# Altium schematic symbol library RPSLib.SchLib: 121 symbols (part 3 of 3)
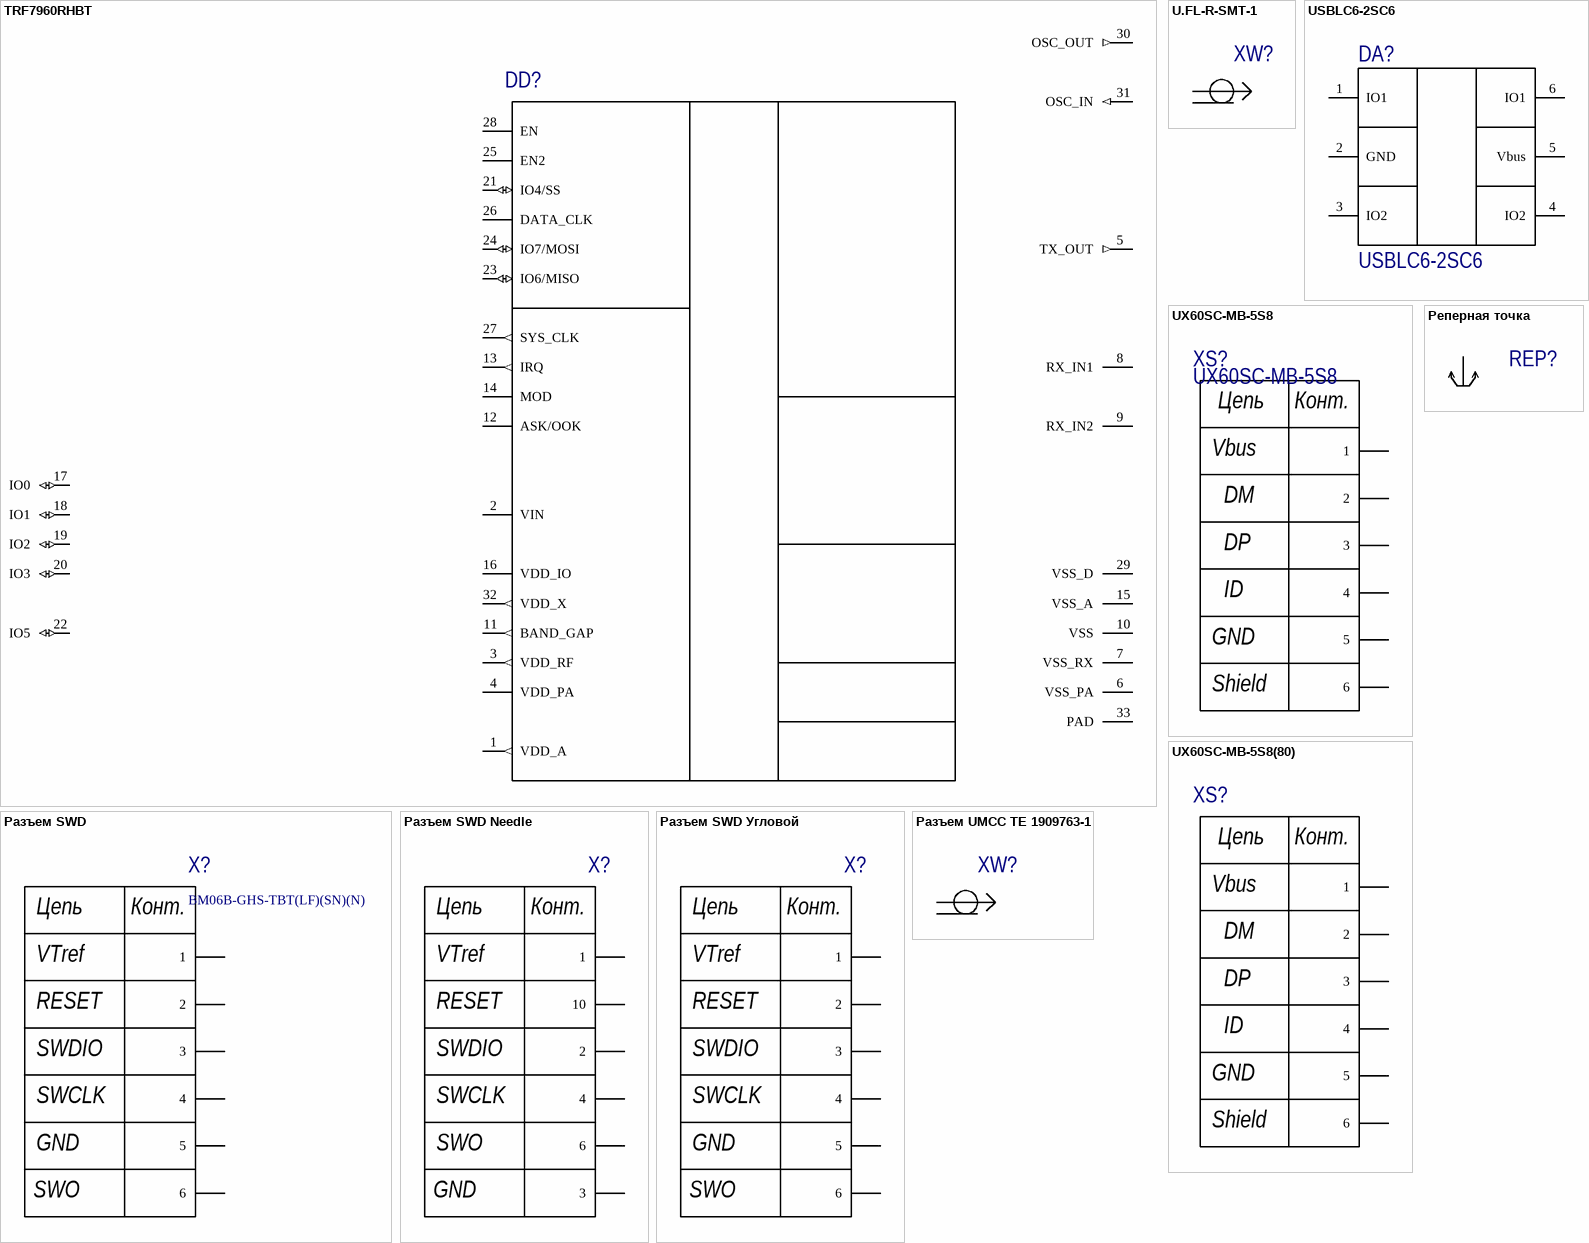
[diagram p8: symbols TRF7960RHBT to Реперная точка]

## UX60SC-MB-5S8(80)
designator XS?  (value not drawn)
USB - mini B USB 2.0 Receptacle Connector 5 Position Surface Mount, Right Angle; Through Hole; Manufacturer: Hirose; Voltage Rating: 30V; Current Rating: 1A; Number of Contacts: 5; Supplier 1: Digi-Key; Supplier Part Number 1: H125762CT-ND; Manufacturer Part Number: UX60SC-MB-5S8(80); Stock 1: 4220; Pricing 1: 1=0.8, 10=0.701, 25=0.66, 50=0.6326, 100=0.605, 250=0.55, 500=0.495 (USD); Mount: Surface Mount,Horizontal,Through Hole; Contact Material: Copper Alloy; Min Operating Temperature: -30°C; Max Operating Temperature: 75°C; Package Quantity: 1000; Packaging: Tape and Reel; Gender: Receptacle; Connector Type: USB; Termination: Solder; Orientation: Right Angle; ComponentLink1URL: https://media.digikey.com/pdf/Data%20Sheets/Hirose%20PDFs/UX60S.pdf?src-supplier=Digi-Key; ComponentLink1Description: https://media.digikey.com/pdf/Data%20Sheets/Hirose%20PDFs/UX60S.pdf?src-supplier=Digi-Key
footprint UX60SC-MB-5S8(80)
pins: 1, 2, 3, 4, 5, 6
text: Цепь; Конт.; Vbus; DM; DP; ID; GND; Shield

## Разъем SWD
designator X?, comment BM06B-GHS-TBT(LF)(SN)(N)
SWD отладка; Manufacturer: JST; Max Current Rating: 1A; Contact Resistance: 50mR; Number of Positions: 6; Max Voltage Rating (AC): 50V; Connector Type: Outer Shroud Contact; Pitch: 0.049inch; PartNo: BM06B-GHS-TBT(LF)(SN)(N); Supplier 1: Digi-Key; Supplier Part Number 1: 455-1582-1-ND; Manufacturer Part Number: BM06B-GHS-TBT(LF)(SN)(N); Stock 1: 44065; Pricing 1: 1=0.56, 10=0.524, 100=0.4019, 500=0.34948, 1000=0.28832 (USD); Mount: Surface Mount; Colour: Natural; Contact Plating: Copper,Tin; Contact Material: Bronze; Housing Colour: Beige; Housing Material: Polyamide; Min Operating Temperature: -25°C; Max Operating Temperature: 85°C; Number of Rows: 1; Fastening Type: Ramp; Packaging: Tape and Reel; Termination: Solder; Orientation: Straight; Length: 10.75mm; Depth: 4.25mm; Lead Free: Lead Free; ComponentLink1URL: http://www.jst-mfg.com/product/pdf/eng/eGH.pdf; ComponentLink1Description: http://www.jst-mfg.com/product/pdf/eng/eGH.pdf
footprint BM06B-GH
footprint DS1021-2x3S
pins: 1, 2, 3, 4, 5, 6
text: Цепь; Конт.; VTref; RESET; SWDIO; SWCLK; GND; SWO

## Разъем SWD Needle
designator X?  (no BOM)
SWD отладка
footprint J-Link Needle 10 pin
pins: 1, 2, 3, 4, 6, 10
text: Цепь; Конт.; VTref; RESET; SWDIO; SWCLK; SWO; GND

## Разъем SWD Угловой
designator X?
SWD отладка; Manufacturer: JST; Manufacturer Part Number: SM06B-GHS-TB(LF)(SN); Number of Positions: 6; Connector Type: Outer Shroud Contact; Current Rating: 1A; Voltage Rating: 50V; Contact Resistance: 50mR; Pitch: 1.25mm; Supplier 1: Digi-Key; Stock 1: 0; Mount: Surface Mount; Contact Plating: Copper,Tin; Colour: Natural; Contact Material: Bronze; Housing Colour: Beige; Housing Material: Polyamide; Min Operating Temperature: -25°C; Max Operating Temperature: 85°C; Number of Rows: 1; Packaging: Tape and Reel; Termination: Solder; Fastening Type: Ramp; Number of Contacts: 6; Orientation: Right Angle; Max Current Rating: 1A; Max Voltage Rating (AC): 50V; Length: 10.75mm; Depth: 4.05mm; Lead Free: Lead Free; Supplier Part Number 1: 455-1568-1-ND
footprint SM06B-GHS-TB
pins: 1, 2, 3, 4, 5, 6
text: Цепь; Конт.; VTref; RESET; SWDIO; SWCLK; GND; SWO

## Разъем UMCC TE 1909763-1
designator XW?, comment TE 1909763-1  (value not drawn)
Разъем UMCC, микрополосок; Manufacturer: TE Connectivity AMP; Body Material: Liquid Crystal Polymer,Polymer; Body Plating: Gold; Dielectric Material: Polymer; Impedance: 50R; Max Frequency: 6GHz; Connector Type: Jack; Gender: Female; Connector System: Cable-to-Board; Number of Positions: 1; Sealable: No (Without); РКД Наименование: 1909763-1 - UMCC разъем, TE Connectivity; Supplier 1: Digi-Key; Manufacturer Part Number: 1909763-1; Stock 1: 119207; Pricing 1: 1=0.5, 10=0.472, 100=0.3615, 500=0.3144, 1000=0.2594 (USD); Mount: Panel; Case/Package: SMD/SMT; Contact Plating: Gold; Contact Material: Copper Alloy; Housing Color: Beige; Insulation Material: Thermoplastic; Min Operating Temperature: -40°C; Max Operating Temperature: 194°C; Packaging: Tape and Reel; Package Quantity: 1; Fastening Type: Pull,Push; Termination: SMD/SMT; Orientation: Straight; Frequency: 6GHz; Length: 3mm; Radiation Hardening: No; ELV: Compliant; Lead Free: Lead Free; ComponentLink1URL: http://www.te.com/commerce/DocumentDelivery/DDEController?Action=showdoc&DocId=Customer+Drawing%7F1909763%7FB%7Fpdf%7FEnglish%7FENG_CD_1909763_B.pdf%7F1909763-1&src-supplier=Future+Electronics; ComponentLink1Description: http://www.te.com/commerce/DocumentDelivery/DDEController?Action=showdoc&DocId=Customer+Drawing%7F1909763%7FB%7Fpdf%7FEnglish%7FENG_CD_1909763_B.pdf%7F1909763-1&src-supplier=Future+Electronics; ComponentLink2URL: http://www.te.com/commerce/DocumentDelivery/DDEController?Action=showdoc&DocId=Customer+Drawing%7F1909763%7FB%7Fpdf%7FEnglish%7FENG_CD_1909763_B.pdf%7F1909763-1&src-supplier=Avnet+Asia; ComponentLink2Description: http://www.te.com/commerce/DocumentDelivery/DDEController?Action=showdoc&DocId=Customer+Drawing%7F1909763%7FB%7Fpdf%7FEnglish%7FENG_CD_1909763_B.pdf%7F1909763-1&src-supplier=Avnet+Asia; ComponentLink3URL: http://www.te.com/commerce/DocumentDelivery/DDEController?Action=showdoc&DocId=Customer+Drawing%7F1909763%7FB%7Fpdf%7FEnglish%7FENG_CD_1909763_B.pdf%7F1909763-1&src-supplier=Avnet; ComponentLink3Description: http://www.te.com/commerce/DocumentDelivery/DDEController?Action=showdoc&DocId=Customer+Drawing%7F1909763%7FB%7Fpdf%7FEnglish%7FENG_CD_1909763_B.pdf%7F1909763-1&src-supplier=Avnet; ComponentLink4URL: https://www.te.com/commerce/DocumentDelivery/DDEController?Action=srchrtrv&DocNm=1909763&DocType=Customer+Drawing&DocLang=English&src-supplier=Digi-Key; ComponentLink4Description: https://www.te.com/commerce/DocumentDelivery/DDEController?Action=srchrtrv&DocNm=1909763&DocType=Customer+Drawing&DocLang=English&src-supplier=Digi-Key; Supplier Part Number 1: A118077CT-ND
footprint UMCC TE 1909763-1
pins: 1, 2
1 alternate drawing of the same symbol

## Реперная точка
designator REP?  (value not drawn)  (no BOM)
footprint Reper (Опорная точка)
pins: R0 IO